# EAGLE library part L6227 (library my_ic)
ST L6227
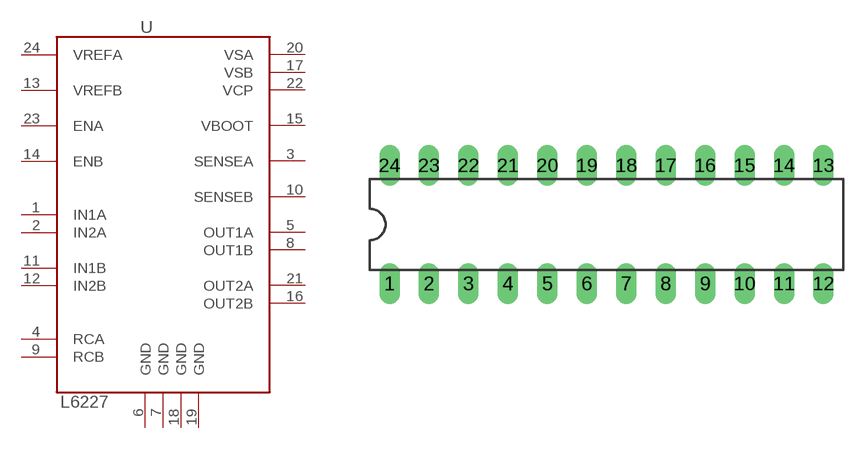
[diagram p0: symbol with the pads of L6227_DIP24; footprint L6227_DIP24]

Designator prefix -

## L6227N  [L6227_DIP24]
1  IN1A  in
2  IN2A  in
3  SENSEA  in
4  RCA  pas
5  OUT1A  out
6  GND  pwr
7  GND  pwr
8  OUT1B  out
9  RCB  pas
10  SENSEB  in
11  IN1B  in
12  IN2B  in
13  VREFB  in
14  ENB  in
15  VBOOT  pas
16  OUT2B  out
17  VSB  pwr
18  GND  pwr
19  GND  pwr
20  VSA  pwr
21  OUT2A  out
22  VCP  pas
23  ENA  in
24  VREFA  in

## Footprint L6227_DIP24 (pad centres in mm)
drill 0.813 long: 1 -13.97,-3.81; 2 -11.43,-3.81; 3 -8.89,-3.81; 4 -6.35,-3.81; 5 -3.81,-3.81; 6 -1.27,-3.81; 7 1.27,-3.81; 8 3.81,-3.81; 9 6.35,-3.81; 10 8.89,-3.81; 11 11.43,-3.81; 12 13.97,-3.81; 13 13.97,3.81; 14 11.43,3.81; 15 8.89,3.81; 16 6.35,3.81; 17 3.81,3.81; 18 1.27,3.81; 19 -1.27,3.81; 20 -3.81,3.81; 21 -6.35,3.81; 22 -8.89,3.81; 23 -11.43,3.81; 24 -13.97,3.81